# Altium schematic symbol library 模块库原理图.SchLib: 5 symbols
Pins are listed as number, name and electrical type; pins without a type are passive.

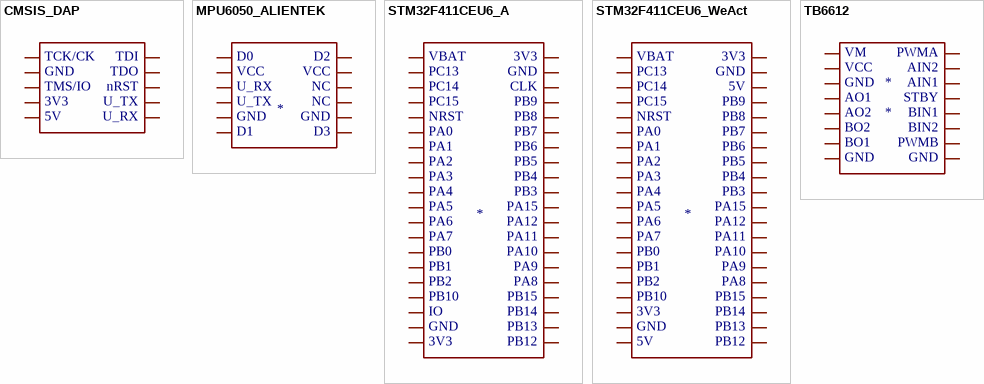
[diagram p0: symbols CMSIS_DAP to TB6612]

## CMSIS_DAP
designator ?
footprint CMSIS_DAP_PB
footprint CMSIS_DAP_PW
pins: 1, 2, 3, 4, 5, 6, 7, 8, 9, 10
text: TCK/CK; TDI; GND; TDO; TMS/IO; nRST; 3V3; U_TX; 5V; U_RX

## MPU6050_ALIENTEK
designator ?
footprint MPU6050_ATK
pins: 1, 2, 3, 4, 5, 6, 7, 8 7, 9 7, 10 7, 11 7, 12 7
text: D0; D2; VCC; U_RX; NC; U_TX; GND; D1; D3

## STM32F411CEU6_A
designator ?
footprint STM32F411CEU6_A
pins: 1, 2 1, 3 1, 4 1, 5 1, 6 1, 7 1, 8 1, 9 1, 10 1, 11 1, 12 1, 13 1, 14 1, 15 1, 16 1, 17 1, 18 1, 19 1, 20 1, 21 1, 22 1, 23 1, 24 1, 25 1, 26 1, 27 1, 28 1, 29 1, 30 1, 31 1, 32 1, 33 1, 34 1, 35 1, 36 1, 37 1, 38 1, 39 1, 40 1
text: VBAT; 3V3; PC13; GND; PC14; CLK; PC15; PB9; NRST; PB8; PA0; PB7; PA1; PB6; PA2; PB5; PA3; PB4; PA4; PB3; PA5; PA15; PA6; PA12; PA7; PA11; PB0; PA10; PB1; PA9; PB2; PA8; PB10; PB15; IO; PB14; PB13; PB12

## STM32F411CEU6_WeAct
designator ?
footprint STM32F411CEU6_WeAct
pins: 1, 2 1, 3 1, 4 1, 5 1, 6 1, 7 1, 8 1, 9 1, 10 1, 11 1, 12 1, 13 1, 14 1, 15 1, 16 1, 17 1, 18 1, 19 1, 20 1, 21 1, 22 1, 23 1, 24 1, 25 1, 26 1, 27 1, 28 1, 29 1, 30 1, 31 1, 32 1, 33 1, 34 1, 35 1, 36 1, 37 1, 38 1, 39 1, 40 1
text: VBAT; 3V3; PC13; GND; PC14; 5V; PC15; PB9; NRST; PB8; PA0; PB7; PA1; PB6; PA2; PB5; PA3; PB4; PA4; PB3; PA5; PA15; PA6; PA12; PA7; PA11; PB0; PA10; PB1; PA9; PB2; PA8; PB10; PB15; PB14; PB13; PB12

## TB6612
designator *
footprint TB6612
pins: 1, 2, 3, 4, 5, 6, 7, 8 7, 9 7, 10 7, 11 7, 12 7, 13 7, 14 7, 15 7, 16 7
text: VM; PWMA; VCC; AIN2; GND; AIN1; AO1; STBY; AO2; BIN1; BO2; BIN2; BO1; PWMB